# EAGLE library part UCC27523DR (library UCC27523DR-fet-driver)
Dual, 5A, High-Speed Low-Side Power MOSFET Driver Source: Datasheet <http://www.ti.com/lit/gpn/ucc27523>
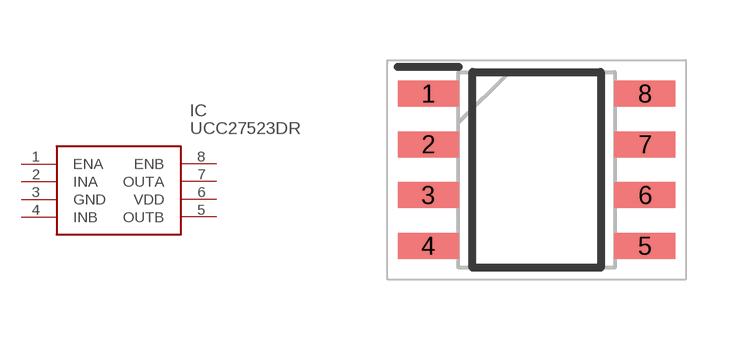
[diagram p0: symbol with the pads of SOIC127P600X175-8N; footprint SOIC127P600X175-8N]

Designator prefix IC

## UCC27523DR (Description: Dual, 5A, High-Speed Low-Side Power MOSFET Driver; Height: 1.75mm; Manufacturer_Name: Texas Instruments; Manufacturer_Part_Number: UCC27523DR; Mouser_Part_Number: 595-UCC27523DR; Mouser_Price-Stock: https://www.mouser.co.uk/ProductDetail/Texas-Instruments/UCC27523DR/?qs=JK0Mn6q9DKQ5jNt3UHw5hw%3D%3D)  [SOIC127P600X175-8N]
1  ENA
2  INA
3  GND
4  INB
5  OUTB
6  VDD
7  OUTA
8  ENB

## Footprint SOIC127P600X175-8N (pad centres in mm)
D (R-PDSO-G8)
smd 1.525 x 0.65: 1 -2.712,1.905; 2 -2.712,0.635; 3 -2.712,-0.635; 4 -2.712,-1.905; 5 2.712,-1.905; 6 2.712,-0.635; 7 2.712,0.635; 8 2.712,1.905